# Altium integrated library EPL3015-472MLB.IntLib: 1 symbol
Pins are listed as number, name and electrical type; pins without a type are passive.

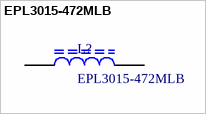
[diagram p0: symbol EPL3015-472MLB]

## EPL3015-472MLB
designator L?
Shielded Power Inductors, 4.7uH, Isat 1.6A @ 30%, Irms 1.4A @ 40°C, 3 x 3 x 1.5mm; Manufacturer: COILCRAFT; Supplier 1: Farnell; Supplier 2: Mouser; Supplier Part Number 1: 2287412; Supplier Part Number 2: 994-EPL3015-472MLB; ComponentLink1URL: http://www.farnell.com/datasheets/1681919.pdf; ComponentLink1Description: Datasheet; Manufacturer Part Number: EPL3015-472MLB; Supplier 3: *; Supplier Part Number 3: *
footprint EPL3015-222_L (Inductor, Shielded, SMT, EPL3015 Series, 3 x 3 x 1.55 mm)
pins: 1, 2